# Altium footprint library SON50P200X60-8N.PcbLib: 1 footprints
Each footprint in its own frame and in the unit in brackets; x right, y up, seen from the top. Pads: shape width x height; smd on the part's side, far side on the other; paste and mask are expansions set on the pad; w line width, h text height; cw(c..) or ccw(c..) is an arc to the next point about the centre after c.
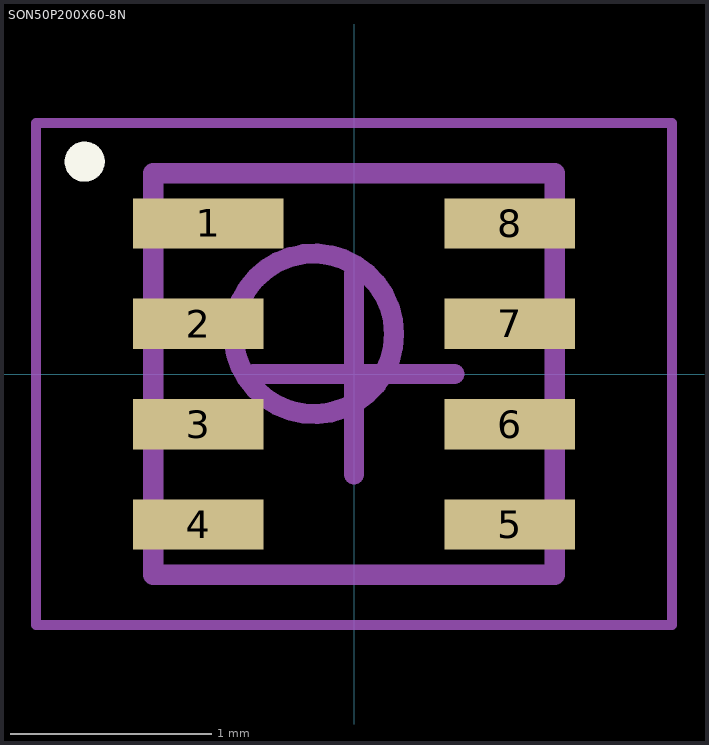
[diagram p0: the footprint, top view; thin cyan lines are the x and y axes]

## SON50P200X60-8N [mm] "SON, 8-Leads, Body 2.00x2.00mm, Pitch 0.50mm, IPC Medium Density"
height 0.6
pads (8):
  rect 0.75x0.25 smd: 1(-0.725,0.75)
  rect 0.65x0.25 smd: 2(-0.775,0.25) 3(-0.775,-0.25) 4(-0.775,-0.75) 5(0.775,-0.75) 6(0.775,-0.25) 7(0.775,0.25) 8(0.775,0.75)
Top Overlay:
  circle w0.1: c-1.342,1.058 r0.05
Mechanical 13:
  circle w0.1: c-0.2,0.2 r0.4
  lines w0.1: -1,-1 1,-1 1,1 -1,1 -1,-1
Mechanical 15:
  lines w0.05: -1.585,-1.25 1.585,-1.25 1.585,1.25 -1.585,1.25 -1.585,-1.25
  lines w0.1: -0.5,0 0.5,0 ; 0,-0.5 0,0.5
3D body: height 0.6, standoff 0, extent -1,-1 1,1